# Altium schematic symbol library RES.SchLib: 5 symbols
Pins are listed as number, name and electrical type; pins without a type are passive.

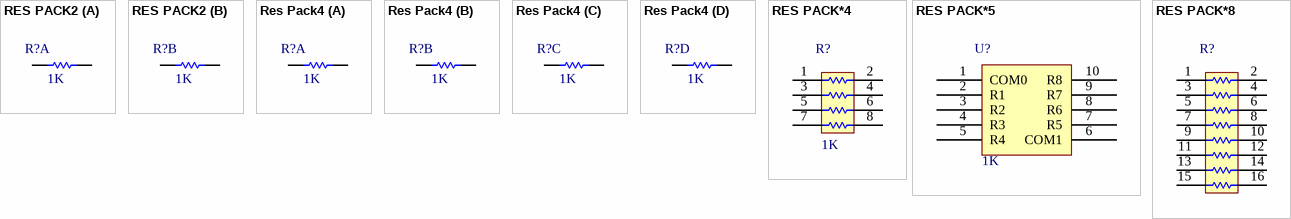
[diagram p0: symbols RES PACK2 to RES PACK*8]

## RES PACK2
designator R?  value 1K  (hidden comment: RES PACK2)
Resistor array; Company: Panasonic
footprint 0201*2 (For EXB14V)
part A pins: 1, 2
part B pins: 3, 4

## Res Pack4
designator R?, comment value 1K  (hidden comment: Resistor)
Resistor Array
footprint SMN1206
part A pins: 1, 2
part B pins: 3, 4
part C pins: 5, 6
part D pins: 7, 8

## RES PACK*4
designator R?, comment value 1K  (hidden comment: Res)
footprint SMN1206
pins: 1, 2, 3, 4, 5, 6, 7, 8

## RES PACK*5
designator U?, comment value 1K  (hidden comment: RES PACK *5)
footprint MNR35(3216*5)
pins: 1 COM0 (power), 2 R1 (power), 3 R2 (power), 4 R3 (power), 5 R4 (power), 6 COM1 (power), 7 R5 (power), 8 R6 (power), 9 R7 (power), 10 R8 (power)

## RES PACK*8
designator R?, comment RES PACK  (value not drawn)
RES PACK * 8; Value: 10; Company: Panasonic
footprint EXB2HV (For 0402*8)
pins: 1, 2, 3, 4, 5, 6, 7, 8, 9, 10, 11, 12, 13, 14, 15, 16